# EAGLE library part TL2575 (library TI)
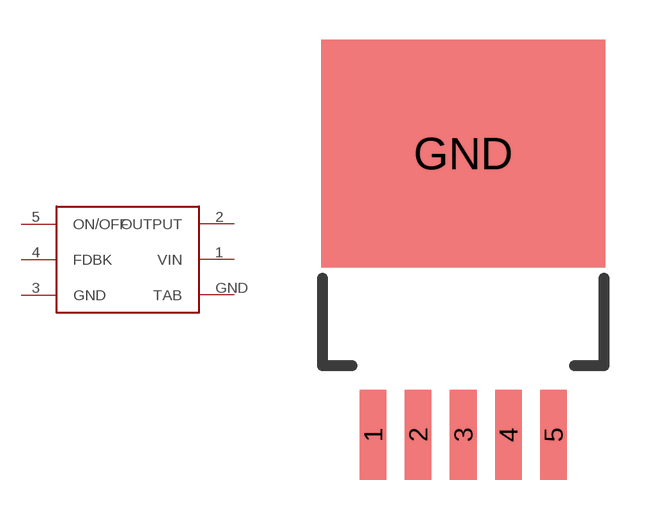
[diagram p3: symbol with the pads of TO-263; footprint TO-263]

Designator prefix -

## TL2575  [TO-263]
1  VIN
2  OUTPUT
3  GND
4  FDBK
5  ON/OFF
GND  TAB

## Footprint TO-263 (pad centres in mm)
smd 1 x 3.4: 1 -3.4,-10.6; 2 -1.7,-10.6; 3 0,-10.6; 4 1.7,-10.6; 5 3.4,-10.6
smd 10.7 x 8.6: GND 0,0